# Altium footprint library Supernova Power.PcbLib: 51 footprints (part 4 of 4)
Each footprint in its own frame and in the unit in brackets; x right, y up, seen from the top. Pads: shape width x height; smd on the part's side, far side on the other; paste and mask are expansions set on the pad; w line width, h text height; cw(c..) or ccw(c..) is an arc to the next point about the centre after c.
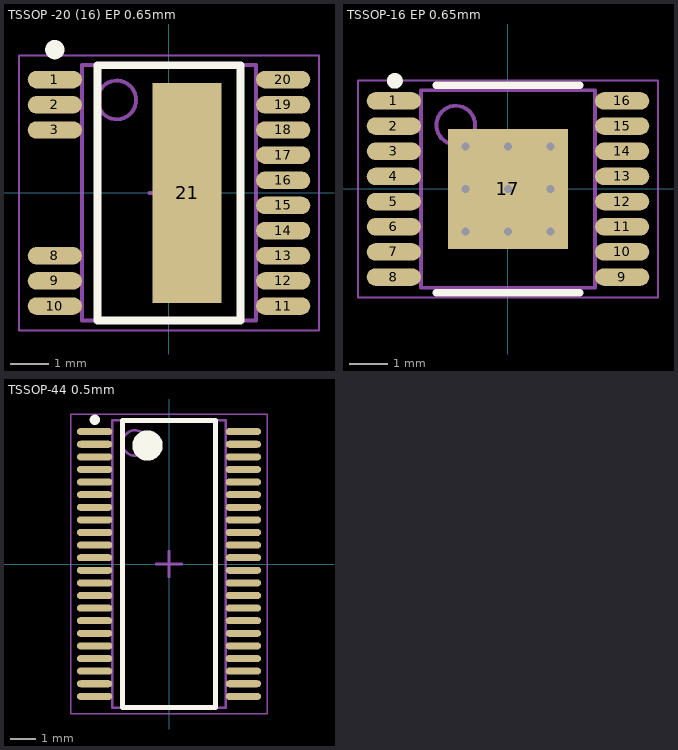
[diagram p3: the footprints below, top view; thin cyan lines are the x and y axes]

## TSSOP -20 (16) EP 0.65mm [mm] "TSOP, 20-Leads, Body 6.50x4.40mm, Pitch 0.65mm, Thermal Pad 5.68x1.78mm, IPC Medium Density"
height 1.2
pads (17):
  oval 1.4x0.45 smd mask+0.025: 1(-2.95,2.925) 2(-2.95,2.275) 3(-2.95,1.625) 8(-2.95,-1.625) 9(-2.95,-2.275) 10(-2.95,-2.925) 11(2.95,-2.925) 12(2.95,-2.275) 13(2.95,-1.625) 14(2.95,-0.975) 15(2.95,-0.325) 16(2.95,0.325) 17(2.95,0.975) 18(2.95,1.625) 19(2.95,2.275) 20(2.95,2.925)
  rect 1.78x5.68 smd paste-2: 21(0.47,0)
Top Overlay:
  circle w0.25: c-2.95,3.7 r0.125
  lines w0.2: -1.85,-3.3 -1.85,3.3 1.85,3.3 1.85,-3.3 -1.85,-3.3
Top Paste:
  rectangle: -0.325,-2.55 1.275,-1.05
  rectangle: -0.325,1.05 1.275,2.55
  rectangle: -0.325,-0.75 1.275,0.75
Top 3D Body (Mech13):
  circle w0.1: c-1.35,2.4 r0.5
  lines w0.1: -2.25,-3.3 -2.25,3.3 2.25,3.3 2.25,-3.3 -2.25,-3.3
Top Courtyard:
  lines w0.05: -3.875,-3.55 -3.875,3.55 3.875,3.55 3.875,-3.55 -3.875,-3.55
  lines w0.1: -0.5,0 0.5,0 ; 0,-0.5 0,0.5
3D body: height 1.2, standoff 0.05, extent -2.25,-3.3 2.25,3.3

## TSSOP-16 EP 0.65mm [mm] "TSOP, 16-Leads, Body 5.00x4.40mm, Pitch 0.65mm, Thermal Pad 3.10x3.10mm, IPC Medium Density"
height 1.1
pads (17):
  oval 1.4x0.45 smd mask+0.025: 1(-2.95,2.275) 2(-2.95,1.625) 3(-2.95,0.975) 4(-2.95,0.325) 5(-2.95,-0.325) 6(-2.95,-0.975) 7(-2.95,-1.625) 8(-2.95,-2.275) 9(2.95,-2.275) 10(2.95,-1.625) 11(2.95,-0.975) 12(2.95,-0.325) 13(2.95,0.325) 14(2.95,0.975) 15(2.95,1.625) 16(2.95,2.275)
  rect 3.1x3.1 smd: 17(0,0)
via -1.1,1.1 diameter 0.5 hole 0.2
via 0,1.1 diameter 0.5 hole 0.2
via 1.1,1.1 diameter 0.5 hole 0.2
via -1.1,0 diameter 0.5 hole 0.2
via 0,0 diameter 0.5 hole 0.2
via 1.1,0 diameter 0.5 hole 0.2
via -1.1,-1.1 diameter 0.5 hole 0.2
via 0,-1.1 diameter 0.5 hole 0.2
via 1.1,-1.1 diameter 0.5 hole 0.2
Top Overlay:
  circle w0.203: c-2.921,2.794 r0.102
  lines w0.2: -1.85,-2.677 1.85,-2.677 ; -1.85,2.677 1.85,2.677
Top 3D Body (Mech13):
  circle w0.1: c-1.35,1.65 r0.5
  lines w0.1: -2.25,-2.55 -2.25,2.55 2.25,2.55 2.25,-2.55 -2.25,-2.55
Top Courtyard:
  lines w0.05: -3.875,-2.8 -3.875,2.8 3.875,2.8 3.875,-2.8 -3.875,-2.8
  lines w0.1: -0.5,0 0.5,0 ; 0,-0.5 0,0.5
3D body: height 0.2, standoff 0, extent -3.25,-2.45 3.25,-2.1
3D body: height 0.2, standoff 0, extent -3.25,-1.8 3.25,-1.45
3D body: height 0.2, standoff 0, extent -3.25,-1.15 3.25,-0.8
3D body: height 0.2, standoff 0, extent -3.25,-0.5 3.25,-0.15
3D body: height 0.2, standoff 0, extent -3.25,0.15 3.25,0.5
3D body: height 0.2, standoff 0, extent -3.25,0.8 3.25,1.15
3D body: height 0.2, standoff 0, extent -3.25,1.45 3.25,1.8
3D body: height 0.2, standoff 0, extent -3.25,2.1 3.25,2.45
3D body: height 1.1, standoff 0.05, extent -2.25,-2.55 2.25,2.55

## TSSOP-44 0.5mm [mm] "TSSOP, 44-Leads, Body 11.15x4.40mm, Pitch 0.50mm, IPC Medium Density"
height 1.2
pads (44):
  oval 1.4x0.279 smd mask+0.013: 1(-2.95,5.25) 2(-2.95,4.75) 3(-2.95,4.25) 4(-2.95,3.75) 5(-2.95,3.25) 6(-2.95,2.75) 7(-2.95,2.25) 8(-2.95,1.75) 9(-2.95,1.25) 10(-2.95,0.75) 11(-2.95,0.25) 12(-2.95,-0.25) 13(-2.95,-0.75) 14(-2.95,-1.25) 15(-2.95,-1.75) 16(-2.95,-2.25) 17(-2.95,-2.75) 18(-2.95,-3.25) 19(-2.95,-3.75) 20(-2.95,-4.25) 21(-2.95,-4.75) 22(-2.95,-5.25) 23(2.95,-5.25) 24(2.95,-4.75) 25(2.95,-4.25) 26(2.95,-3.75) 27(2.95,-3.25) 28(2.95,-2.75) 29(2.95,-2.25) 30(2.95,-1.75) 31(2.95,-1.25) 32(2.95,-0.75) 33(2.95,-0.25) 34(2.95,0.25) 35(2.95,0.75) 36(2.95,1.25) 37(2.95,1.75) 38(2.95,2.25) 39(2.95,2.75) 40(2.95,3.25) 41(2.95,3.75) 42(2.95,4.25) 43(2.95,4.75) 44(2.95,5.25)
Top Overlay:
  circle w0.203: c-2.941,5.721 r0.102
  circle w0.6: c-0.85,4.7 r0.3
  lines w0.2: -1.85,-5.7 1.85,-5.7 1.85,5.7 -1.85,5.7 -1.85,-5.7
Top 3D Body (Mech13):
  circle w0.1: c-1.35,4.8 r0.5
  lines w0.1: -2.25,-5.7 2.25,-5.7 2.25,5.7 -2.25,5.7 -2.25,-5.7
Top Courtyard:
  lines w0.05: -3.9,-5.95 3.9,-5.95 3.9,5.95 -3.9,5.95 -3.9,-5.95
  lines w0.1: -0.5,0 0.5,0 ; 0,-0.5 0,0.5
3D body: height 1.2, standoff 0.05, extent -2.25,-5.7 2.25,5.7
3D body: height 0.2, standoff 0, extent -3.25,5.15 3.25,5.35
3D body: height 0.2, standoff 0, extent -3.25,4.65 3.25,4.85
3D body: height 0.2, standoff 0, extent -3.25,4.15 3.25,4.35
3D body: height 0.2, standoff 0, extent -3.25,3.65 3.25,3.85
3D body: height 0.2, standoff 0, extent -3.25,3.15 3.25,3.35
3D body: height 0.2, standoff 0, extent -3.25,2.65 3.25,2.85
3D body: height 0.2, standoff 0, extent -3.25,2.15 3.25,2.35
3D body: height 0.2, standoff 0, extent -3.25,1.65 3.25,1.85
3D body: height 0.2, standoff 0, extent -3.25,1.15 3.25,1.35
3D body: height 0.2, standoff 0, extent -3.25,0.65 3.25,0.85
3D body: height 0.2, standoff 0, extent -3.25,0.15 3.25,0.35
3D body: height 0.2, standoff 0, extent -3.25,-0.35 3.25,-0.15
3D body: height 0.2, standoff 0, extent -3.25,-0.85 3.25,-0.65
3D body: height 0.2, standoff 0, extent -3.25,-1.35 3.25,-1.15
3D body: height 0.2, standoff 0, extent -3.25,-1.85 3.25,-1.65
3D body: height 0.2, standoff 0, extent -3.25,-2.35 3.25,-2.15
3D body: height 0.2, standoff 0, extent -3.25,-2.85 3.25,-2.65
3D body: height 0.2, standoff 0, extent -3.25,-3.35 3.25,-3.15
3D body: height 0.2, standoff 0, extent -3.25,-3.85 3.25,-3.65
3D body: height 0.2, standoff 0, extent -3.25,-4.35 3.25,-4.15
3D body: height 0.2, standoff 0, extent -3.25,-4.85 3.25,-4.65
3D body: height 0.2, standoff 0, extent -3.25,-5.35 3.25,-5.15